# Altium schematic symbol library VoltageSupply.SchLib: 15 symbols
Pins are listed as number, name and electrical type; pins without a type are passive.

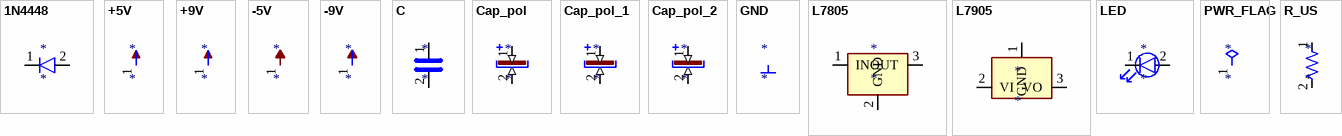
[diagram p0: symbols 1N4448 to R_US]

## 1N4448
designator *
pins: 1 K, 2 A

## +5V
designator *
pins: 1 +5V (power)

## +9V
designator *
pins: 1 +9V (power)

## -5V
designator *
pins: 1 -5V (power)

## -9V
designator *
pins: 1 -9V (power)

## C
designator *
pins: 1, 2

## Cap_pol
designator *
pins: 1 (in), 2 (in)

## Cap_pol_1
designator *
pins: 1 (in), 2 (in)

## Cap_pol_2
designator *
pins: 1 (in), 2 (in)

## GND
designator *
pins: 1 GND (power) hidden

## L7805
designator *
pins: 1 IN (power), 2 GND (power), 3 OUT (power)

## L7905
designator *
pins: 1 GND (power), 2 VI (power), 3 VO (power)

## LED
designator *
pins: 1 K, 2 A

## PWR_FLAG
designator *  (graphical)
pins: 1 pwr (power)

## R_US
designator *
pins: 1, 2